# Altium footprint library sion.PcbLib: 26 footprints (part 2 of 2)
Each footprint in its own frame and in the unit in brackets; x right, y up, seen from the top. Pads: shape width x height; smd on the part's side, far side on the other; paste and mask are expansions set on the pad; w line width, h text height; cw(c..) or ccw(c..) is an arc to the next point about the centre after c.
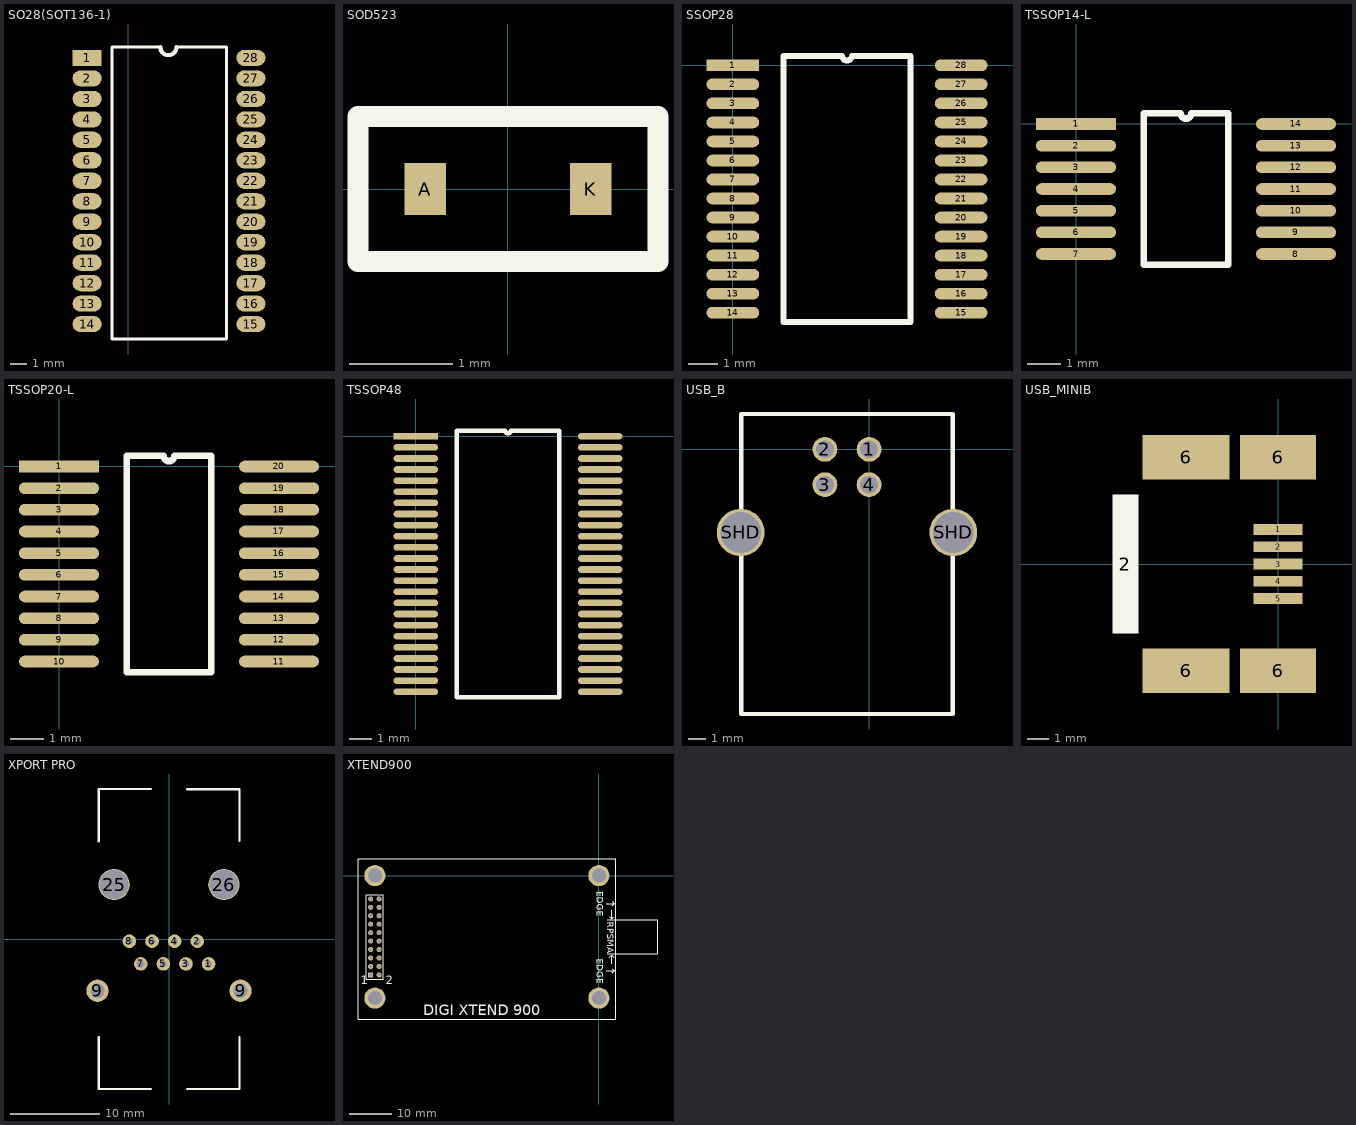
[diagram p1: the footprints below, top view; thin cyan lines are the x and y axes]

## SO28(SOT136-1) [mm]
pads (28):
  rect 1.8x1 smd: 1(-2.54,-13.97)
  oval 1.8x1 smd: 2(-2.54,-15.24) 3(-2.54,-16.51) 4(-2.54,-17.78) 5(-2.54,-19.05) 6(-2.54,-20.32) 7(-2.54,-21.59) 8(-2.54,-22.86) 9(-2.54,-24.13) 10(-2.54,-25.4) 11(-2.54,-26.67) 12(-2.54,-27.94) 13(-2.54,-29.21) 14(-2.54,-30.48) 15(7.62,-30.48) 16(7.62,-29.21) 17(7.62,-27.94) 18(7.62,-26.67) 19(7.62,-25.4) 20(7.62,-24.13) 21(7.62,-22.86) 22(7.62,-21.59) 23(7.62,-20.32) 24(7.62,-19.05) 25(7.62,-17.78) 26(7.62,-16.51) 27(7.62,-15.24) 28(7.62,-13.97)
Top Overlay:
  lines w0.2: 2,-13.3 -1,-13.3 -1,-31.4 6.1,-31.4 6.1,-13.3 3,-13.3
  lines w0.254: 2,-13.3 ccw(c2.5,-13.3) 3,-13.3

## SOD523 [mm]
pads (2):
  rect 0.4x0.5 smd: A(-0.8,0) K(0.8,0)
Top Overlay:
  lines w0.2: -1.45,-0.7 1.45,-0.7 1.45,0.7 -1.45,0.7 -1.45,0 -1.45,-0.7

## SSOP28 [mm]
pads (28):
  rect 1.8x0.4 smd: 1(0,0)
  oval 1.8x0.4 smd: 2(0,-0.65) 3(0,-1.3) 4(0,-1.95) 5(0,-2.6) 6(0,-3.25) 7(0,-3.9) 8(0,-4.55) 9(0,-5.2) 10(0,-5.85) 11(0,-6.5) 12(0,-7.15) 13(0,-7.8) 14(0,-8.45) 15(7.8,-8.45) 16(7.8,-7.8) 17(7.8,-7.15) 18(7.8,-6.5) 19(7.8,-5.85) 20(7.8,-5.2) 21(7.8,-4.55) 22(7.8,-3.9) 23(7.8,-3.25) 24(7.8,-2.6) 25(7.8,-1.95) 26(7.8,-1.3) 27(7.8,-0.65) 28(7.8,0)
Top Overlay:
  lines w0.2: 1.735,-8.775 6.065,-8.775 6.065,0.325 4.062,0.325 cw(c3.9,0.325) 3.738,0.325 1.735,0.325 1.735,-8.775

## TSSOP14-L [mm] "TSSOP14 extra long pads"
pads (14):
  rect 2.4x0.35 smd: 1(0,0)
  oval 2.4x0.35 smd: 2(0,-0.65) 3(0,-1.3) 4(0,-1.95) 5(0,-2.6) 6(0,-3.25) 7(0,-3.9) 8(6.6,-3.9) 9(6.6,-3.25) 10(6.6,-2.6) 11(6.6,-1.95) 12(6.6,-1.3) 13(6.6,-0.65) 14(6.6,0)
Top Overlay:
  lines w0.2: 2.035,-4.225 4.565,-4.225 4.565,0.325 3.462,0.325 cw(c3.3,0.325) 3.137,0.325 2.035,0.325 2.035,-4.225

## TSSOP20-L [mm]
pads (20):
  rect 2.4x0.35 smd: 1(0,0)
  oval 2.4x0.35 smd: 2(0,-0.65) 3(0,-1.3) 4(0,-1.95) 5(0,-2.6) 6(0,-3.25) 7(0,-3.9) 8(0,-4.55) 9(0,-5.2) 10(0,-5.85) 11(6.6,-5.85) 12(6.6,-5.2) 13(6.6,-4.55) 14(6.6,-3.9) 15(6.6,-3.25) 16(6.6,-2.6) 17(6.6,-1.95) 18(6.6,-1.3) 19(6.6,-0.65) 20(6.6,0)
Top Overlay:
  lines w0.2: 2.035,-6.175 2.035,0.325 3.137,0.325 ccw(c3.3,0.325) 3.462,0.325 4.565,0.325 4.565,-6.175 2.035,-6.175

## TSSOP48 [mm]
pads (48):
  rect 2x0.3 smd: 1(0,0)
  oval 2x0.3 smd: 2(0,-0.5) 3(0,-1) 4(0,-1.5) 5(0,-2) 6(0,-2.5) 7(0,-3) 8(0,-3.5) 9(0,-4) 10(0,-4.5) 11(0,-5) 12(0,-5.5) 13(0,-6) 14(0,-6.5) 15(0,-7) 16(0,-7.5) 17(0,-8) 18(0,-8.5) 19(0,-9) 20(0,-9.5) 21(0,-10) 22(0,-10.5) 23(0,-11) 24(0,-11.5) 25(8.3,-11.5) 26(8.3,-11) 27(8.3,-10.5) 28(8.3,-10) 29(8.3,-9.5) 30(8.3,-9) 31(8.3,-8.5) 32(8.3,-8) 33(8.3,-7.5) 34(8.3,-7) 35(8.3,-6.5) 36(8.3,-6) 37(8.3,-5.5) 38(8.3,-5) 39(8.3,-4.5) 40(8.3,-4) 41(8.3,-3.5) 42(8.3,-3) 43(8.3,-2.5) 44(8.3,-2) 45(8.3,-1.5) 46(8.3,-1) 47(8.3,-0.5) 48(8.3,0)
Top Overlay:
  lines w0.2: 1.835,-11.75 6.465,-11.75 6.465,0.25 4.275,0.25 cw(c4.15,0.25) 4.025,0.25 1.835,0.25 1.835,-11.75

## USB_B [mm] "USB B type full size"
pads (6):
  round 1.4 hole 1: 1(0,0) 2(-2.5,0) 3(-2.5,-2) 4(0,-2)
  round 2.7 hole 2.3: SHD(-7.27,-4.71) SHD(4.77,-4.71)
Top Overlay:
  lines w0.254: -7.25,-14.99 -7.25,2 4.75,2 4.75,-14.99 -7.25,-14.99

## USB_MINIB [mm] "USB Mini B connector SMT"
pads (10):
  rect 2.25x0.5 smd mask+0: 1(0,1.6) 2(0,0.8) 3(0,0) 4(0,-0.8) 5(0,-1.6)
  rect 1.2x6.4 on Top Overlay mask+0: 2(-7.052,0)
  rect 4x2.05 smd mask+0: 6(-4.25,-4.925) 6(-4.25,4.925)
  rect 3.5x2.05 smd mask+0: 6(0,-4.925) 6(0,4.925)

## XPORT PRO [mm] "Lantronix Xport Pro"
pads (12):
  round 1.524 hole 0.762: 1(4.445,-2.79) 2(3.175,-0.25) 3(1.905,-2.79) 4(0.635,-0.25) 5(-0.635,-2.79) 6(-1.905,-0.25) 8(-4.445,-0.25)
  round 1.524 hole 0.9: 7(-3.175,-2.79)
  round 2.5 hole 1.6 mask+0: 9(-8.025,-5.8) 9(8.025,-5.8)
  round 3.5 hole 3.25 mask+0: 25(-6.15,6.1) 26(6.15,6.1)
Top Overlay:
  lines w0.254: -7.9,-16.825 -2.06,-16.825 ; -7.9,16.825 -2.06,16.825 ; 2.06,-16.82 7.9,-16.82 ; 7.9,-16.825 7.9,-10.985 ; 7.9,10.985 7.9,16.825
  lines w0.26: -7.895,-16.825 -7.895,-10.985
  lines w0.3: -7.875,10.965 -7.875,16.805 ; 2.035,16.8 7.875,16.8

## XTEND900 [mm] "Digi XTEND900"
pads (24):
  rect 1.2x1.2 hole 0.8: 1(-54,-23.5)
  round 1.2 hole 0.8: 2(-52,-23.5) 3(-54,-21.5) 4(-52,-21.5) 5(-54,-19.5) 6(-52,-19.5) 7(-54,-17.5) 8(-52,-17.5) 9(-54,-15.5) 10(-52,-15.5) 11(-54,-13.5) ""(-54,-11.5) ""(-54,-9.5) ""(-54,-7.5) ""(-54,-5.5) ""(-52,-13.5) ""(-52,-11.5) ""(-52,-9.5) ""(-52,-7.5) ""(-52,-5.5)
  round 5 hole 3.3: ""(-53,-29) ""(-53,0) ""(0,-29) ""(0,0)
Top Overlay:
  lines w0.2: -55,-24.5 -55,-4.5 -51,-4.5 -51,-24.5 -55,-24.5
  lines w0.254: 1.7,-22.5 3.7,-22.5 ; 1.7,-6.6 3.7,-6.6 ; 2,-18.5 14,-18.5 14,-10.5 2,-10.5 ; 2.5,-19.3 3,-18.8 ; 2.5,-9.7 3,-10.2 ; 3,-20.8 3,-18.8 ; 3,-8.2 3,-10.2 ; 3.2,-23 3.7,-22.5 ; 3.2,-22 3.7,-22.5 ; 3.2,-7.1 3.7,-6.6 ; 3.2,-6.1 3.7,-6.6 ; 3.5,-19.3 3,-18.8 ; 3.5,-9.7 3,-10.2 ; -57,-34 -57,4 4,4 4,-34 -57,-34
  text "2" at -50.4,-25.7 h2
  text "1" at -56.4,-25.7 h2
  text "DIGI XTEND 900" at -41.6,-33 h2.5
  text "EDGE" at -0.5,-19.7 h1.52
  text "EDGE" at -0.5,-3.7 h1.52
  text "RPSMA" at 2,-10.9 h1.52